# EAGLE library part MOUDLE-WIFI-ESP8266-AKX(16P-24X16MM) (library Seeed-OPL-Moudle)
317060011
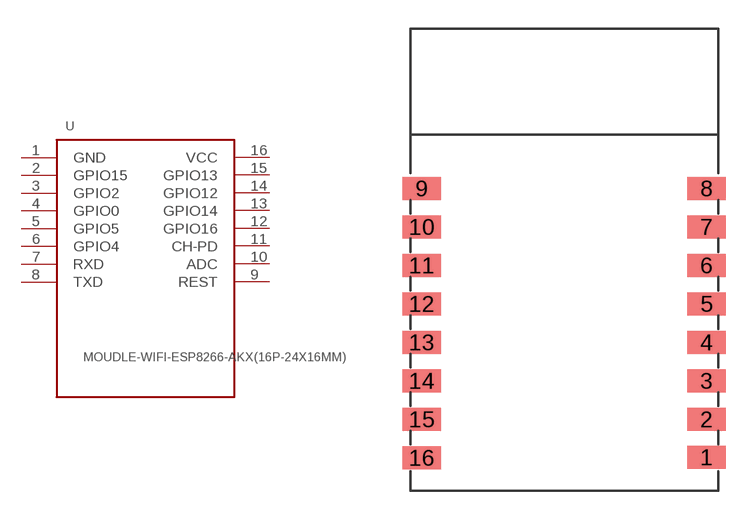
[diagram p8: symbol with the pads of LGA16-2.0-24X16MM; footprint LGA16-2.0-24X16MM]

Designator prefix U

## MOUDLE-WIFI-ESP8266-AKX(16P-24X16MM) (MPN: ES8266; VALUE: 16P 24X16MM 2.4GHZ)  [LGA16-2.0-24X16MM]
1  GND
2  GPIO15
3  GPIO2
4  GPIO0
5  GPIO5
6  GPIO4
7  RXD
8  TXD
9  REST
10  ADC
11  CH-PD
12  GPIO16
13  GPIO14
14  GPIO12
15  GPIO13
16  VCC

## Footprint LGA16-2.0-24X16MM (pad centres in mm)
smd 2 x 1.2: 1 7.4,-10.27; 2 7.4,-8.3; 3 7.4,-6.3; 4 7.4,-4.3; 5 7.4,-2.3; 6 7.4,-0.3; 7 7.4,1.7; 8 7.4,3.7; 9 -7.4,3.7; 10 -7.4,1.7; 11 -7.4,-0.3; 12 -7.4,-2.3; 13 -7.4,-4.3; 14 -7.4,-6.3; 15 -7.4,-8.3; 16 -7.4,-10.3